# Altium schematic symbol library Relay.SchLib: 6 symbols
Pins are listed as number, name and electrical type; pins without a type are passive.

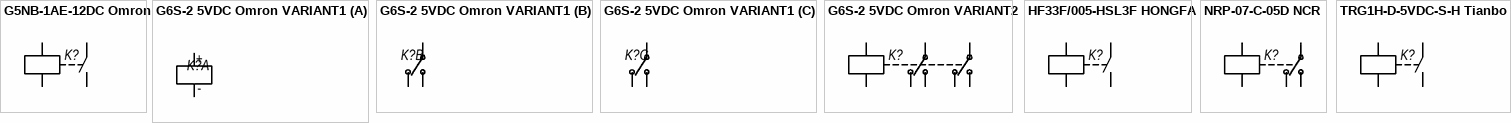
[diagram p0: symbols G5NB-1AE-12DC Omron to TRG1H-D-5VDC-S-H Tianbo]

## G5NB-1AE-12DC Omron
designator K?  (value not drawn)
Partnumber: =Identifier
footprint G5NB
pins: 1, 2, 3, 4

## G6S-2 5VDC Omron VARIANT1
designator K?  (value not drawn)
Partnumber: G6S-2 5VDC Omron
footprint G6S-2
part A pins: 1 +, 12 -
part B pins: 3, 4, 5
part C pins: 8, 9, 10

## G6S-2 5VDC Omron VARIANT2
designator K?  (value not drawn)
Partnumber: G6S-2 5VDC Omron
footprint G6S-2
pins: 1, 3, 4, 5, 8, 9, 10, 12

## HF33F/005-HSL3F HONGFA
designator K?  (value not drawn)
Partnumber: =Identifier
footprint PE034
pins: 1, 2, 11, 14

## NRP-07-C-05D NCR
designator K?  (value not drawn)
Partnumber: G6S-2 5VDC Omron
footprint NRP-07
footprint NRP-07-VAR2
pins: 1, 2, 3 C, 4 NC, 5 NO

## TRG1H-D-5VDC-S-H Tianbo
designator K?  (value not drawn)
Partnumber: =Identifier
footprint TRG1
pins: 1, 2, 3, 4